# Altium footprint library Cap_tan.PcbLib: 3 footprints
Each footprint in its own frame and in the unit in brackets; x right, y up, seen from the top. Pads: shape width x height; smd on the part's side, far side on the other; paste and mask are expansions set on the pad; w line width, h text height; cw(c..) or ccw(c..) is an arc to the next point about the centre after c.
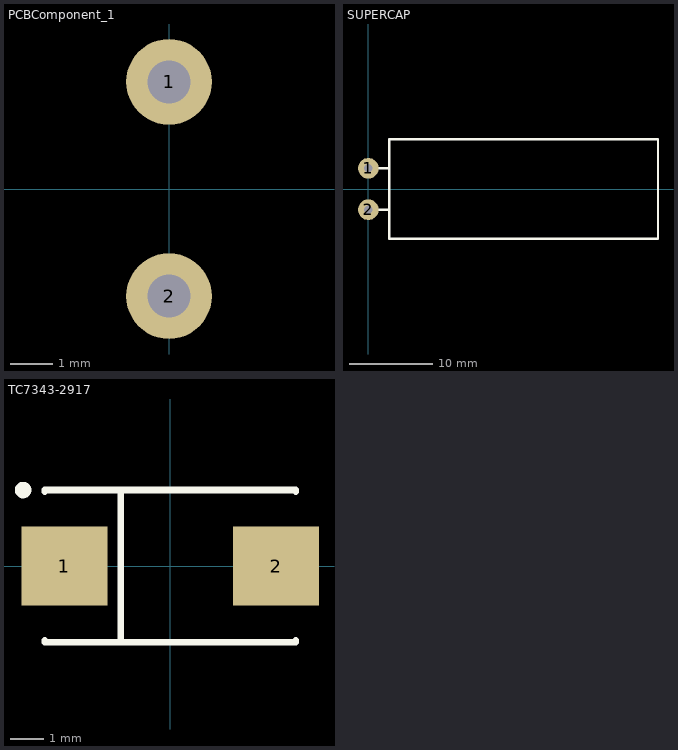
[diagram p0: the footprints below, top view; thin cyan lines are the x and y axes]

## PCBComponent_1 [mm]
pads (2):
  round 2 hole 1: 1(0,2.5) 2(0,-2.5)

## SUPERCAP [mm]
pads (2):
  round 2.5 hole 1: 1(0,2.5) 2(0,-2.5)
Top Overlay:
  lines w0.3: -0.5,2.5 2.5,2.5 ; 0,-2.5 2.5,-2.5 ; 2.5,-6 35,-6 35,6 2.5,6 2.5,-6

## TC7343-2917 [mm] "Capacitor, SM Tantalum; Body 7.3 x 4.3 mm (LxW typ)"
height 3.7
pads (2):
  rect 2.6x2.4 smd: 1(-3.2,0) 2(3.2,0)
Top Overlay:
  circle w0.25: c-4.45,2.3 r0.125
  lines w0.2: -3.8,-2.25 -3.8,-2.3 3.8,-2.3 3.8,-2.25 ; -3.8,2.25 -3.8,2.3 3.8,2.3 3.8,2.25 ; -1.5,-2.3 -1.5,2.3
3D body: height 3.55, standoff 1.32, extent -3.626,-2.15 3.674,2.15